# Altium footprint library SMD Inductors.PcbLib: 3 footprints
Each footprint in its own frame and in the unit in brackets; x right, y up, seen from the top. Pads: shape width x height; smd on the part's side, far side on the other; paste and mask are expansions set on the pad; w line width, h text height; cw(c..) or ccw(c..) is an arc to the next point about the centre after c.
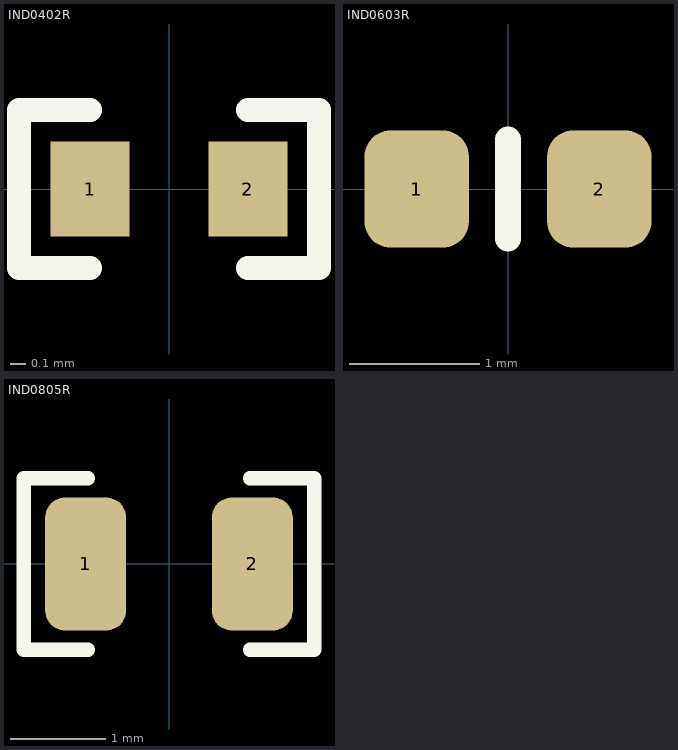
[diagram p0: the footprints below, top view; thin cyan lines are the x and y axes]

## IND0402R [mm]
pads (2):
  rect 0.5x0.6 smd: 1(-0.5,0) 2(0.5,0)
Top Overlay:
  lines w0.152: -0.5,-0.5 -0.95,-0.5 -0.95,0.5 -0.5,0.5 ; 0.5,-0.5 0.95,-0.5 0.95,0.5 0.5,0.5
3D body: height 0.67, standoff 0.01, extent -0.595,-0.32 0.595,0.32

## IND0603R [mm] "resistor 0603 reflow soldering"
pads (2):
  rrect50% 0.8x0.9 smd: 1(-0.7,0) 2(0.7,0)
Top Overlay:
  lines w0.2: 0,-0.381 0,0.381
3D body: height 0.95, standoff 0.01, extent -0.875,-0.545 0.875,0.545

## IND0805R [mm] "resistor 0805 reflow soldering"
pads (2):
  rrect50% 0.85x1.4 smd: 1(-0.875,0) 2(0.875,0)
Top Overlay:
  lines w0.15: -0.85,-0.9 -1.524,-0.9 -1.524,0.9 -0.85,0.9 ; 0.85,-0.9 1.524,-0.9 1.524,0.9 0.85,0.9
3D body: height 0.9, standoff 0.01, extent -1.05,-0.787 1.05,0.787